# Altium footprint library LTC2954CTS8-2.PCBLIB: 1 footprints
Each footprint in its own frame and in the unit in brackets; x right, y up, seen from the top. Pads: shape width x height; smd on the part's side, far side on the other; paste and mask are expansions set on the pad; w line width, h text height; cw(c..) or ccw(c..) is an arc to the next point about the centre after c.
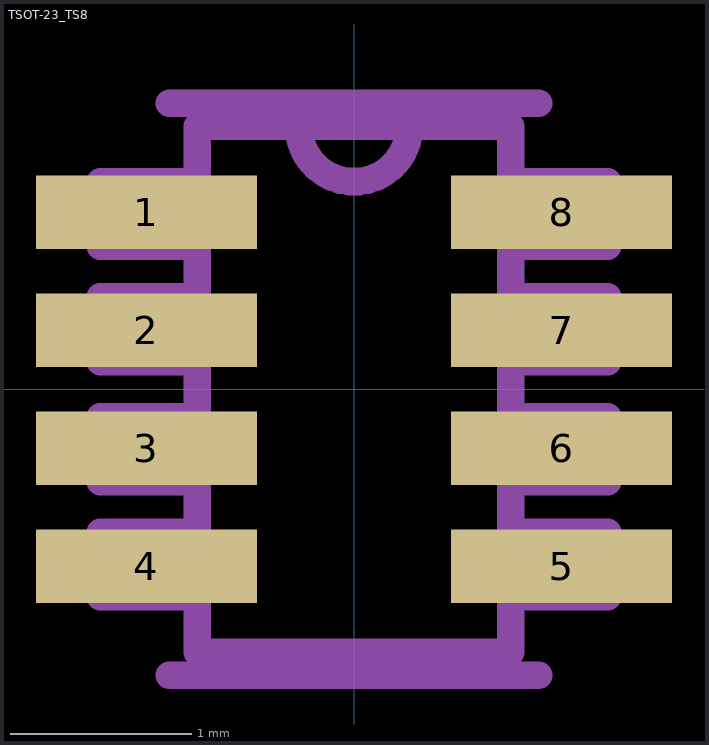
[diagram p0: the footprint, top view; thin cyan lines are the x and y axes]

## TSOT-23_TS8 [mil]
pads (8):
  rect 48x16 smd: 1(-45,38.39) 2(-45,12.8) 3(-45,-12.8) 4(-45,-38.39) 5(45,-38.39) 6(45,-12.8) 7(45,12.8) 8(45,38.39)
Mechanical 2:
  lines w6: -40,-62 40,-62 ; -40,62 40,62
Mechanical 18:
  lines w6: -12,57 12,57 ; -12,57 -34,57 -34,-57 34,-57 34,57 12,57 ; -12,57 ccw(c0,57) 12,57 ; -55,-45 -55,-31 -34,-31 -34,-45 -55,-45 ; -55,-20 -55,-6 -34,-6 -34,-20 -55,-20 ; -55,6 -55,20 -34,20 -34,6 -55,6 ; -55,31 -55,45 -34,45 -34,31 -55,31 ; 34,-45 34,-31 55,-31 55,-45 34,-45 ; 34,-20 34,-6 55,-6 55,-20 34,-20 ; 34,6 34,20 55,20 55,6 34,6 ; 34,31 34,45 55,45 55,31 34,31